# Altium schematic symbol library SCH - SENSOR - TEMPERATURE - TE HPP845E031R4.SCHLIB: 1 symbol
Pins are listed as number, name and electrical type; pins without a type are passive.

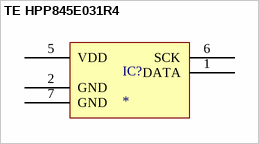
[diagram p0: symbol TE HPP845E031R4]

## TE HPP845E031R4
designator IC?
pins: 1 DATA, 2 GND, 5 VDD, 6 SCK, 7 GND